# EAGLE library part ESP32-PICO-MINI-02 (library FlashPCB_ICs)
ESP32-PICO-MINI-02(U) - Bluetooth, WiFi 802.11b/g/n, Bluetooth v4.2 +EDR, Class 1, 2 and 3 Transceiver Module 2.412GHz ~ 2.484GHz PCB Trace Chassis Mount Technical Specifications: RF Standard: Bluetooth, WiFi Protocol: 802.11b/g/n, Bluetooth v4.2 +EDR, Class 1, 2 and 3 Voltage - Supply: 3V ~ 3.6V Antenna Type: PCB Trace (ESP32-PICO-MINI-02), External (ESP32-PICO-MINI-02U) Component Search: [DATA SHEET NAME] Datasheet: ESP32­PICO­MINI­02
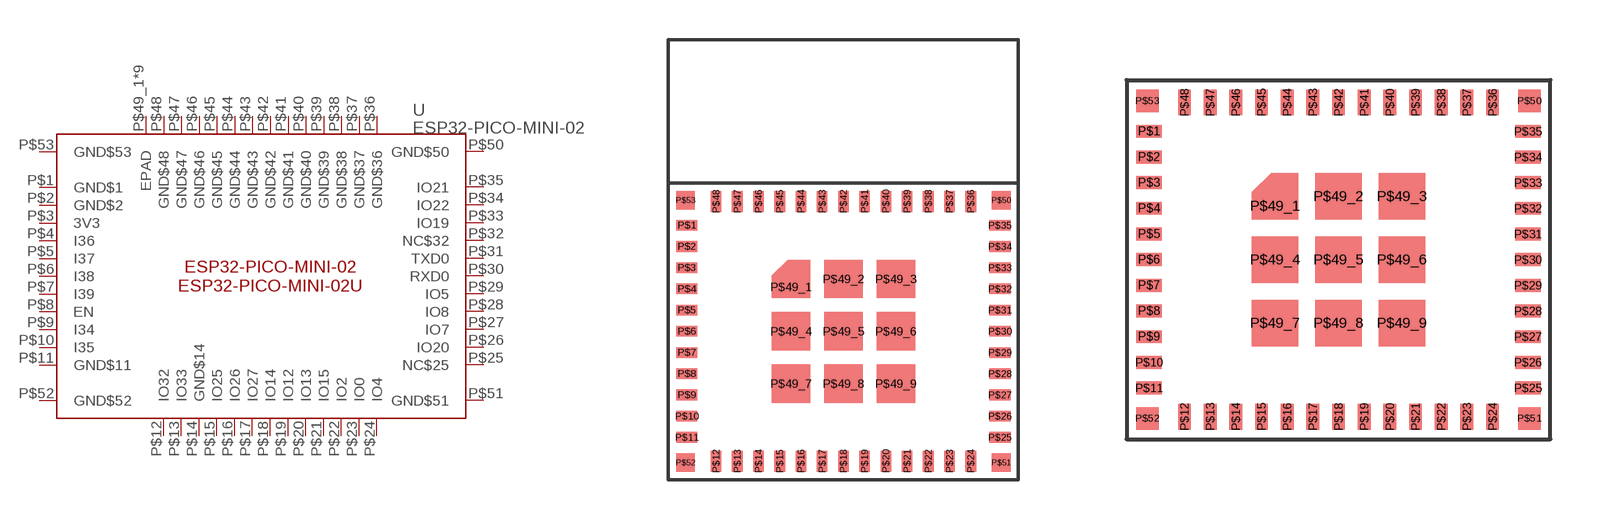
[diagram p45: symbol with the pads of ESP32-PICO-MINI-02; footprints ESP32-PICO-MINI-02, ESP32-PICO-MINI-02U]

Designator prefix U

## ESP32-PICO-MINI-0202  [ESP32-PICO-MINI-02]
P$1  GND$1
P$2  GND$2
P$3  3V3
P$4  I36
P$5  I37
P$6  I38
P$7  I39
P$8  EN
P$9  I34
P$10  I35
P$11  GND$11
P$12  IO32
P$13  IO33
P$14  GND$14
P$15  IO25
P$16  IO26
P$17  IO27
P$18  IO14
P$19  IO12
P$20  IO13
P$21  IO15
P$22  IO2
P$23  IO0
P$24  IO4
P$25  NC$25  nc
P$26  IO20
P$27  IO7
P$28  IO8
P$29  IO5
P$30  RXD0
P$31  TXD0
P$32  NC$32  nc
P$33  IO19
P$34  IO22
P$35  IO21
P$36  GND$36
P$37  GND$37
P$38  GND$38
P$39  GND$39
P$40  GND$40
P$41  GND$41
P$42  GND$42
P$43  GND$43
P$44  GND$44
P$45  GND$45
P$46  GND$46
P$47  GND$47
P$48  GND$48
P$49_1  EPAD
P$49_2  EPAD
P$49_3  EPAD
P$49_4  EPAD
P$49_5  EPAD
P$49_6  EPAD
P$49_7  EPAD
P$49_8  EPAD
P$49_9  EPAD
P$50  GND$50
P$51  GND$51
P$52  GND$52
P$53  GND$53

## ESP32-PICO-MINI-0202U  [ESP32-PICO-MINI-02U]
Pads as for ESP32-PICO-MINI-02

## ESP32-PICO-MINI-0202-THERMALS  [ESP32-PICO-MINI-02-THERMALS]
Pads as for ESP32-PICO-MINI-02

## ESP32-PICO-MINI-0202U-THERMALS  [ESP32-PICO-MINI-02U-THERMALS]
Pads as for ESP32-PICO-MINI-02

## Footprint ESP32-PICO-MINI-02 (pad centres in mm)
smd 0.8 x 0.4: P$1 -5.9,4; P$2 -5.9,3.2; P$3 -5.9,2.4; P$4 -5.9,1.6; P$5 -5.9,0.8; P$6 -5.9,0; P$7 -5.9,-0.8; P$8 -5.9,-1.6; P$9 -5.9,-2.4; P$10 -5.9,-3.2; P$11 -5.9,-4; P$25 5.9,-4; P$26 5.9,-3.2; P$27 5.9,-2.4; P$28 5.9,-1.6; P$29 5.9,-0.8; P$30 5.9,0; P$31 5.9,0.8; P$32 5.9,1.6; P$33 5.9,2.4; P$34 5.9,3.2; P$35 5.9,4
smd 0.4 x 0.8: P$12 -4.8,-4.9; P$13 -4,-4.9; P$14 -3.2,-4.9; P$15 -2.4,-4.9; P$16 -1.6,-4.9; P$17 -0.8,-4.9; P$18 0,-4.9; P$19 0.8,-4.9; P$20 1.6,-4.9; P$21 2.4,-4.9; P$22 3.2,-4.9; P$23 4,-4.9; P$24 4.8,-4.9; P$36 4.8,4.9; P$37 4,4.9; P$38 3.2,4.9; P$39 2.4,4.9; P$40 1.6,4.9; P$41 0.8,4.9; P$42 0,4.9; P$43 -0.8,4.9; P$44 -1.6,4.9; P$45 -2.4,4.9; P$46 -3.2,4.9; P$47 -4,4.9; P$48 -4.8,4.9
smd 1.45 x 0.85: P$49_1 -1.975,1.675
smd 1.45 x 1.45: P$49_2 0,1.975; P$49_3 1.975,1.975; P$49_4 -1.975,0; P$49_5 0,0; P$49_6 1.975,0; P$49_7 -1.975,-1.975; P$49_8 0,-1.975; P$49_9 1.975,-1.975
smd 0.7 x 0.7: P$50 5.95,4.95; P$51 5.95,-4.95; P$52 -5.95,-4.95; P$53 -5.95,4.95

## Footprint ESP32-PICO-MINI-02U (pad centres in mm)
smd 0.8 x 0.4: P$1 -5.9,4; P$2 -5.9,3.2; P$3 -5.9,2.4; P$4 -5.9,1.6; P$5 -5.9,0.8; P$6 -5.9,0; P$7 -5.9,-0.8; P$8 -5.9,-1.6; P$9 -5.9,-2.4; P$10 -5.9,-3.2; P$11 -5.9,-4; P$25 5.9,-4; P$26 5.9,-3.2; P$27 5.9,-2.4; P$28 5.9,-1.6; P$29 5.9,-0.8; P$30 5.9,0; P$31 5.9,0.8; P$32 5.9,1.6; P$33 5.9,2.4; P$34 5.9,3.2; P$35 5.9,4
smd 0.4 x 0.8: P$12 -4.8,-4.9; P$13 -4,-4.9; P$14 -3.2,-4.9; P$15 -2.4,-4.9; P$16 -1.6,-4.9; P$17 -0.8,-4.9; P$18 0,-4.9; P$19 0.8,-4.9; P$20 1.6,-4.9; P$21 2.4,-4.9; P$22 3.2,-4.9; P$23 4,-4.9; P$24 4.8,-4.9; P$36 4.8,4.9; P$37 4,4.9; P$38 3.2,4.9; P$39 2.4,4.9; P$40 1.6,4.9; P$41 0.8,4.9; P$42 0,4.9; P$43 -0.8,4.9; P$44 -1.6,4.9; P$45 -2.4,4.9; P$46 -3.2,4.9; P$47 -4,4.9; P$48 -4.8,4.9
smd 1.45 x 0.85: P$49_1 -1.975,1.675
smd 1.45 x 1.45: P$49_2 0,1.975; P$49_3 1.975,1.975; P$49_4 -1.975,0; P$49_5 0,0; P$49_6 1.975,0; P$49_7 -1.975,-1.975; P$49_8 0,-1.975; P$49_9 1.975,-1.975
smd 0.7 x 0.7: P$50 5.95,4.95; P$51 5.95,-4.95; P$52 -5.95,-4.95; P$53 -5.95,4.95

## Footprint ESP32-PICO-MINI-02-THERMALS (pad centres in mm)
smd 0.8 x 0.4: P$1 -5.9,4; P$2 -5.9,3.2; P$3 -5.9,2.4; P$4 -5.9,1.6; P$5 -5.9,0.8; P$6 -5.9,0; P$7 -5.9,-0.8; P$8 -5.9,-1.6; P$9 -5.9,-2.4; P$10 -5.9,-3.2; P$11 -5.9,-4; P$25 5.9,-4; P$26 5.9,-3.2; P$27 5.9,-2.4; P$28 5.9,-1.6; P$29 5.9,-0.8; P$30 5.9,0; P$31 5.9,0.8; P$32 5.9,1.6; P$33 5.9,2.4; P$34 5.9,3.2; P$35 5.9,4
smd 0.4 x 0.8: P$12 -4.8,-4.9; P$13 -4,-4.9; P$14 -3.2,-4.9; P$15 -2.4,-4.9; P$16 -1.6,-4.9; P$17 -0.8,-4.9; P$18 0,-4.9; P$19 0.8,-4.9; P$20 1.6,-4.9; P$21 2.4,-4.9; P$22 3.2,-4.9; P$23 4,-4.9; P$24 4.8,-4.9; P$36 4.8,4.9; P$37 4,4.9; P$38 3.2,4.9; P$39 2.4,4.9; P$40 1.6,4.9; P$41 0.8,4.9; P$42 0,4.9; P$43 -0.8,4.9; P$44 -1.6,4.9; P$45 -2.4,4.9; P$46 -3.2,4.9; P$47 -4,4.9; P$48 -4.8,4.9
smd 1.45 x 0.85: P$49_1 -1.975,1.675
smd 1.45 x 1.45: P$49_2 0,1.975; P$49_3 1.975,1.975; P$49_4 -1.975,0; P$49_5 0,0; P$49_6 1.975,0; P$49_7 -1.975,-1.975; P$49_8 0,-1.975; P$49_9 1.975,-1.975
smd 0.7 x 0.7: P$50 5.95,4.95; P$51 5.95,-4.95; P$52 -5.95,-4.95; P$53 -5.95,4.95

## Footprint ESP32-PICO-MINI-02U-THERMALS (pad centres in mm)
smd 0.8 x 0.4: P$1 -5.9,4; P$2 -5.9,3.2; P$3 -5.9,2.4; P$4 -5.9,1.6; P$5 -5.9,0.8; P$6 -5.9,0; P$7 -5.9,-0.8; P$8 -5.9,-1.6; P$9 -5.9,-2.4; P$10 -5.9,-3.2; P$11 -5.9,-4; P$25 5.9,-4; P$26 5.9,-3.2; P$27 5.9,-2.4; P$28 5.9,-1.6; P$29 5.9,-0.8; P$30 5.9,0; P$31 5.9,0.8; P$32 5.9,1.6; P$33 5.9,2.4; P$34 5.9,3.2; P$35 5.9,4
smd 0.4 x 0.8: P$12 -4.8,-4.9; P$13 -4,-4.9; P$14 -3.2,-4.9; P$15 -2.4,-4.9; P$16 -1.6,-4.9; P$17 -0.8,-4.9; P$18 0,-4.9; P$19 0.8,-4.9; P$20 1.6,-4.9; P$21 2.4,-4.9; P$22 3.2,-4.9; P$23 4,-4.9; P$24 4.8,-4.9; P$36 4.8,4.9; P$37 4,4.9; P$38 3.2,4.9; P$39 2.4,4.9; P$40 1.6,4.9; P$41 0.8,4.9; P$42 0,4.9; P$43 -0.8,4.9; P$44 -1.6,4.9; P$45 -2.4,4.9; P$46 -3.2,4.9; P$47 -4,4.9; P$48 -4.8,4.9
smd 1.45 x 0.85: P$49_1 -1.975,1.675
smd 1.45 x 1.45: P$49_2 0,1.975; P$49_3 1.975,1.975; P$49_4 -1.975,0; P$49_5 0,0; P$49_6 1.975,0; P$49_7 -1.975,-1.975; P$49_8 0,-1.975; P$49_9 1.975,-1.975
smd 0.7 x 0.7: P$50 5.95,4.95; P$51 5.95,-4.95; P$52 -5.95,-4.95; P$53 -5.95,4.95